# Altium footprint library Synthiam-roundtrip2.PcbLib: 481 footprints (part 26 of 31)
Each footprint in its own frame and in the unit in brackets; x right, y up, seen from the top. Pads: shape width x height; smd on the part's side, far side on the other; paste and mask are expansions set on the pad; w line width, h text height; cw(c..) or ccw(c..) is an arc to the next point about the centre after c.
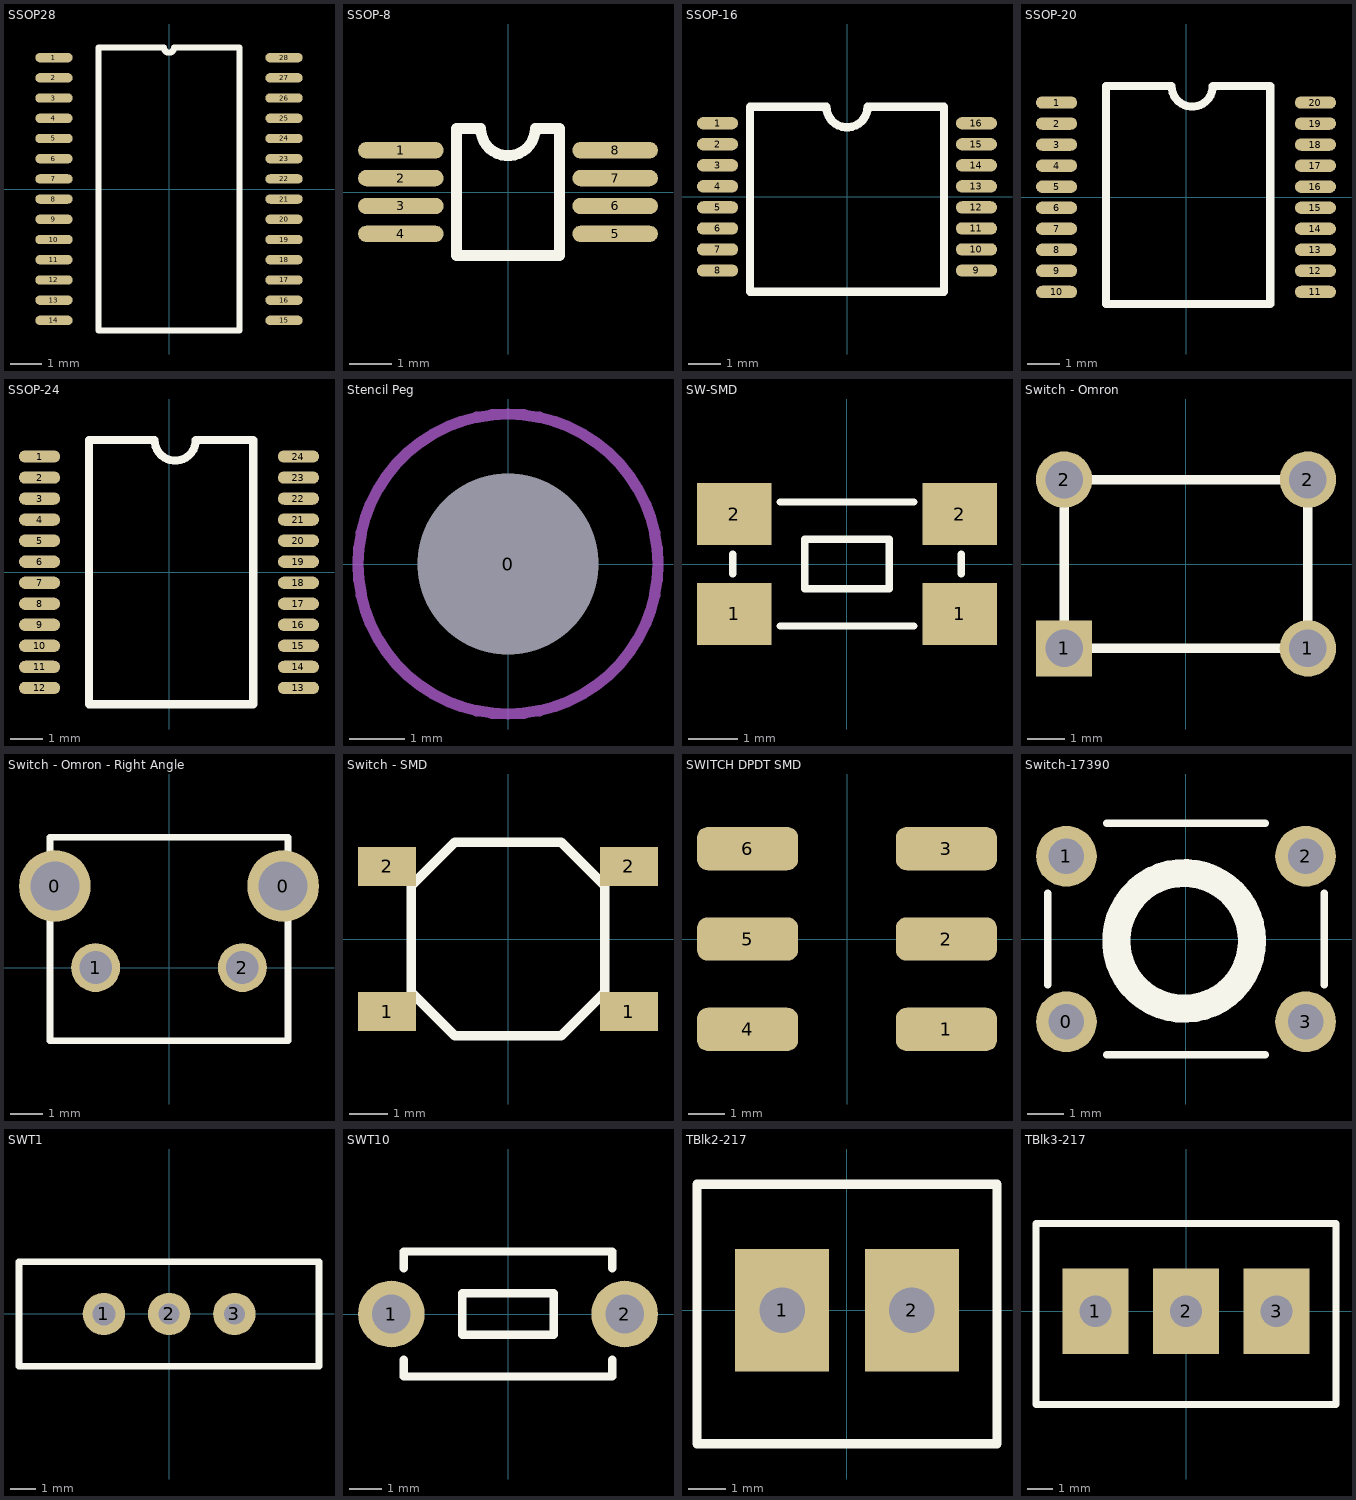
[diagram p25: the footprints below, top view; thin cyan lines are the x and y axes]

## SSOP28 [mm]
pads (28):
  oval 1.2x0.3 smd: 1(-3.71,4.23) 2(-3.71,3.58) 3(-3.71,2.93) 4(-3.71,2.28) 5(-3.71,1.63) 6(-3.71,0.98) 7(-3.71,0.33) 8(-3.71,-0.32) 9(-3.71,-0.97) 10(-3.71,-1.62) 11(-3.71,-2.27) 12(-3.71,-2.92) 13(-3.71,-3.57) 14(-3.71,-4.22) 15(3.69,-4.22) 16(3.69,-3.57) 17(3.69,-2.92) 18(3.69,-2.27) 19(3.69,-1.62) 20(3.69,-0.97) 21(3.69,-0.32) 22(3.69,0.33) 23(3.69,0.98) 24(3.69,1.63) 25(3.69,2.28) 26(3.69,2.93) 27(3.69,3.58) 28(3.69,4.23)
Top Overlay:
  lines w0.2: -2.275,-4.545 2.255,-4.545 2.255,4.555 0.152,4.555 cw(c-0.01,4.555) -0.172,4.555 -2.275,4.555 -2.275,-4.545

## SSOP-8 [mm]
pads (8):
  oval 2x0.381 smd: 1(-2.5,0.975) 2(-2.5,0.325) 3(-2.5,-0.325) 4(-2.5,-0.975) 5(2.5,-0.975) 6(2.5,-0.325) 7(2.5,0.325) 8(2.5,0.975)
Top Overlay:
  lines w0.254: -1.2,-1.483 1.2,-1.483 1.2,1.483 0.635,1.483 cw(c0,1.483) -0.635,1.483 -1.2,1.483 -1.2,-1.483

## SSOP-16 [mm]
pads (16):
  oval 1.27x0.381 smd: 1(-4,2.275) 2(-4,1.625) 3(-4,0.975) 4(-4,0.325) 5(-4,-0.325) 6(-4,-0.975) 7(-4,-1.625) 8(-4,-2.275) 9(4,-2.275) 10(4,-1.625) 11(4,-0.975) 12(4,-0.325) 13(4,0.325) 14(4,0.975) 15(4,1.625) 16(4,2.275)
Top Overlay:
  lines w0.254: -3,-2.932 -3,2.783 -0.635,2.783 ccw(c0,2.783) 0.635,2.783 3,2.783 3,-2.932 -3,-2.932

## SSOP-20 [mm]
pads (20):
  oval 1.27x0.381 smd: 1(-4,2.925) 2(-4,2.275) 3(-4,1.625) 4(-4,0.975) 5(-4,0.325) 6(-4,-0.325) 7(-4,-0.975) 8(-4,-1.625) 9(-4,-2.275) 10(-4,-2.925) 11(4,-2.925) 12(4,-2.275) 13(4,-1.625) 14(4,-0.975) 15(4,-0.325) 16(4,0.325) 17(4,0.975) 18(4,1.625) 19(4,2.275) 20(4,2.925)
Top Overlay:
  lines w0.254: -2.476,-3.298 2.604,-3.298 2.604,3.433 0.826,3.433 cw(c0.191,3.433) -0.444,3.433 -2.476,3.433 -2.476,-3.298

## SSOP-24 [mm]
pads (24):
  oval 1.27x0.381 smd: 1(-4,3.575) 2(-4,2.925) 3(-4,2.275) 4(-4,1.625) 5(-4,0.975) 6(-4,0.325) 7(-4,-0.325) 8(-4,-0.975) 9(-4,-1.625) 10(-4,-2.275) 11(-4,-2.925) 12(-4,-3.575) 13(4,-3.575) 14(4,-2.925) 15(4,-2.275) 16(4,-1.625) 17(4,-0.975) 18(4,-0.325) 19(4,0.325) 20(4,0.975) 21(4,1.625) 22(4,2.275) 23(4,2.925) 24(4,3.575)
Top Overlay:
  lines w0.254: -2.476,-4.083 2.604,-4.083 2.604,4.083 0.826,4.083 cw(c0.191,4.083) -0.444,4.083 -2.476,4.083 -2.476,-4.083

## Stencil Peg [mil]
pads (2):
  round 130 on Top Paste paste+0: 0(0,0)
  round 0 hole 130 paste+0: 1(0,0)
Mechanical 1:
  circle w8: c0,0 r107.5

## SW-SMD [mm]
pads (4):
  rect 1.5x1.25 smd: 1(-2.275,-1.005) 1(2.275,-1.005) 2(-2.275,1.005) 2(2.275,1.005)
Top Overlay:
  lines w0.15: -2.3,-0.2 -2.3,0.2 ; -1.35,-1.25 1.35,-1.25 ; -1.35,1.25 1.35,1.25 ; 2.3,-0.2 2.3,0.2 ; -0.85,-0.5 -0.85,0.5 0.85,0.5 0.85,-0.5 -0.85,-0.5

## Switch - Omron [mm]
pads (4):
  rect 1.5x1.5 hole 1: 1(-3.25,-2.25)
  round 1.5 hole 1: 1(3.25,-2.25) 2(-3.25,2.25) 2(3.25,2.25)
Top Overlay:
  lines w0.254: -3.25,-2.25 3.25,-2.25 3.25,2.25 -3.25,2.25 -3.25,-2.25

## Switch - Omron - Right Angle [mm]
pads (4):
  round 2.2 hole 1.5: 0(-3.5,2.5) 0(3.5,2.5)
  round 1.5 hole 1: 1(-2.25,0) 2(2.25,0)
Top Overlay:
  lines w0.203: -3.65,-2.25 3.65,-2.25 3.65,4 -3.65,4 -3.65,-2.25

## Switch - SMD [mil]
pads (4):
  rect 60x40 smd: 1(-125,-75) 1(125,-75) 2(-125,75) 2(125,75)
Top Overlay:
  lines w10: -100,-55 -100,55 -55,100 55,100 100,55 100,-55 55,-100 -55,-100 -100,-55

## SWITCH DPDT SMD [mm]
pads (6):
  rrect50% 2.8x1.2 smd: 1(2.75,-2.5) 2(2.75,0) 3(2.75,2.5) 4(-2.75,-2.5) 5(-2.75,0) 6(-2.75,2.5)

## Switch-17390 [mil] "E-Switch TL1105F160Q"
pads (4):
  round 65 hole 38: 0(-127.95,-88.58) 1(-127.95,88.58) 2(127.95,88.58) 3(127.95,-88.58)
Top Overlay:
  circle w30: c-1.97,-1.97 r72.59
  lines w8: -147.64,-49.21 -147.64,49.21 ; -84.65,-124.02 84.65,-124.02 ; -84.65,124.02 84.65,124.02 ; 147.64,-49.21 147.64,49.21

## SWT1 [mil] "E-Switch EG1218"
pads (3):
  round 65 hole 35: 1(-100,0)
  round 65 hole 32: 2(0,0) 3(100,0)
Top Overlay:
  lines w10: -230.16,-80.06 -230.16,79.94 229.84,79.94 229.84,-80.06 -230.16,-80.06

## SWT10 [mil] "SPST Reset Switch"
pads (2):
  round 80 hole 46.5: 1(-140,0) 2(140,0)
Top Overlay:
  lines w10: -125,-55 -125,-75 125,-75 125,-55 ; -125,55 -125,75 125,75 125,55 ; -55,-25 -55,0 -55,25 55,25 55,-25 -55,-25

## TBlk2-217 [mil] "4Ucon 10685 series"
pads (2):
  rect 100x130 hole 48.06: 1(-68.9,0) 2(68.9,0)
Top Overlay:
  lines w10: -159.45,-141.73 159.45,-141.73 159.45,133.86 -159.45,133.86 -159.45,-141.73
3D body: height 330.71, standoff 0, extent -159.45,-141.73 159.45,133.86

## TBlk3-217 [mil] "4Ucon 10685 series"
pads (3):
  rect 100x130 hole 48.06: 1(-137.8,0) 2(0,0) 3(137.8,0)
Top Overlay:
  lines w10: -228.35,-141.73 228.35,-141.73 228.35,133.86 -228.35,133.86 -228.35,-141.73
3D body: height 330.71, standoff 0, extent -228.35,-141.73 228.35,133.86